# Altium schematic symbol library RSR025N03FRATL.SchLib: 1 symbol
Pins are listed as number, name and electrical type; pins without a type are passive.

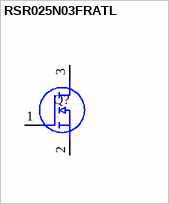
[diagram p0: symbol RSR025N03FRATL]

## RSR025N03FRATL
designator Q?
ROHM - RSR025N03FRATL - Power MOSFET, N Channel, 30 V, 2.5 A, 0.05 ohm, TSMT, Surface Mount; Manufacturer_Name: ROHM Semiconductor; Geometry.Height: 1mm; Manufacturer_Part_Number: RSR025N03FRATL; Mouser Part Number: *; Mouser Price/Stock: *; Arrow Part Number: *; Arrow Price/Stock: *; Mouser Testing Part Number: *; Mouser Testing Price/Stock: *; Datasheet Link: https://componentsearchengine.com/Datasheets/2/RSR025N03FRATL.pdf
footprint SOT95P280X100-3N
pins: 1 G, 2 S, 3 D